# EAGLE library part MICRO_USB_B (library LW_DUB)
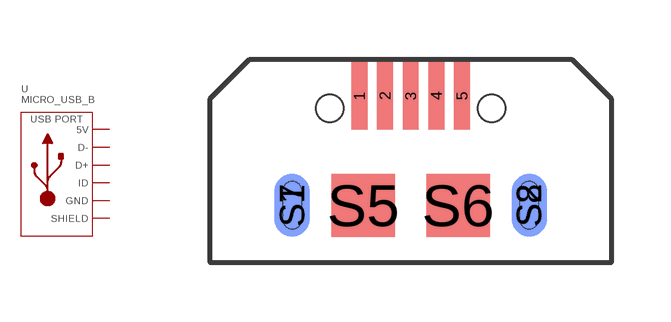
[diagram p12: symbol with the pads of MICRO_USB_B; footprint MICRO_USB_B]

Designator prefix -

## MICRO_USB_B  [MICRO_USB_B]
1  5V  pwr
2  D-
3  D+
4  ID
5  GND  pwr
S1  SLD  pwr
S2  SLD  pwr
S5  SLD  pwr
S6  SLD  pwr
S7  SLD  pwr
S8  SLD  pwr

## Footprint MICRO_USB_B (pad centres in mm)
smd 0.4 x 1.7: 1 -1.3,1.37; 2 -0.65,1.37; 3 0,1.37; 4 0.65,1.37; 5 1.3,1.37
smd 0.9 x 1.6: S1 -3,-1.4; S2 3,-1.4
smd 1.6 x 1.6: S5 -1.2,-1.405; S6 1.2,-1.405
smd 0.9 x 1.6 bottom: S7 -3,-1.4; S8 3,-1.4
hole 0.7 at -2.05,1.05
hole 0.7 at 2.05,1.05